# EAGLE library part 691401710017 (library Wurth_Elektronik_Electromechanic_Terminal_Blocks_Connectors_rev15c)
WR-TBL Terminal block - serie 401 5,0mm - Spring clamp/Screw less - horizontal entry - 17p Code:Con_TBL_Screwless_5.00_6914017100xxB_691401710017 <http://katalog.we-online.de/media/images/eican/Con_TBL_Screwless_5.00_6914017100xxB_pf2.jpg> Details see: http://katalog.we-online.de/en/em/691_401_710_0xx/691_401_710_017B?m Created 2014-12-22, aslant tao 2014 (C) Würth Elektronik
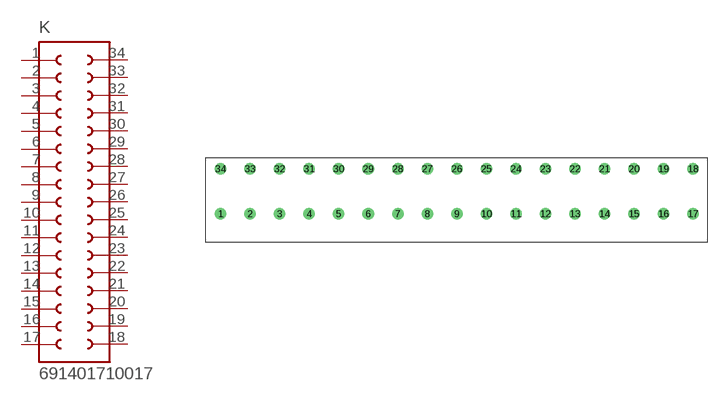
[diagram p246: symbol with the pads of 691401710017; footprint 691401710017]

Designator prefix K

## 691401710017  [691401710017]
1  1  pas
2  2  pas
3  3  pas
4  4  pas
5  5  pas
6  6  pas
7  7  pas
8  8  pas
9  9  pas
10  10  pas
11  11  pas
12  12  pas
13  13  pas
14  14  pas
15  15  pas
16  16  pas
17  17  pas
18  18  pas
19  19  pas
20  20  pas
21  21  pas
22  22  pas
23  23  pas
24  24  pas
25  25  pas
26  26  pas
27  27  pas
28  28  pas
29  29  pas
30  30  pas
31  31  pas
32  32  pas
33  33  pas
34  34  pas

## Footprint 691401710017 (pad centres in mm)
WR-TBL Serie 401 - 5.0mm Screwless Horizontal Entry - 2 mm2 Wires, 17 Pins
drill 1.3: 1 -40,0; 2 -35,0; 3 -30,0; 4 -25,0; 5 -20,0; 6 -15,0; 7 -10,0; 8 -5,0; 9 0,0; 10 5,0; 11 10,0; 12 15,0; 13 20,0; 14 25,0; 15 30,0; 16 35,0; 17 40,0; 18 40,7.62; 19 35,7.62; 20 30,7.62; 21 25,7.62; 22 20,7.62; 23 15,7.62; 24 10,7.62; 25 5,7.62; 26 0,7.62; 27 -5,7.62; 28 -10,7.62; 29 -15,7.62; 30 -20,7.62; 31 -25,7.62; 32 -30,7.62; 33 -35,7.62; 34 -40,7.62